# EAGLE library part LDC1314 (library LDC)
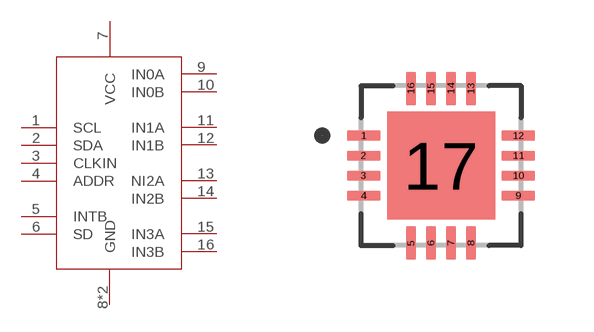
[diagram p0: symbol with the pads of QFN50P400X400X80-17N; footprint QFN50P400X400X80-17N]

Designator prefix -

## LDC1314  [QFN50P400X400X80-17N]
1  SCL
2  SDA
3  CLKIN
4  ADDR
5  INTB
6  SD
7  VCC
8  GND
9  IN0A
10  IN0B
11  IN1A
12  IN1B
13  NI2A
14  IN2B
15  IN3A
16  IN3B
17  GND

## Footprint QFN50P400X400X80-17N (pad centres in mm)
smd 0.84 x 0.26: 1 -1.935,0.75; 2 -1.935,0.25; 3 -1.935,-0.25; 4 -1.935,-0.75; 9 1.935,-0.75; 10 1.935,-0.25; 11 1.935,0.25; 12 1.935,0.75
smd 0.26 x 0.84: 5 -0.75,-1.935; 6 -0.25,-1.935; 7 0.25,-1.935; 8 0.75,-1.935; 13 0.75,1.935; 14 0.25,1.935; 15 -0.25,1.935; 16 -0.75,1.935
smd 2.7 x 2.7: 17 0,0